# Altium footprint library CALTEST_CT3151-2.PcbLib: 1 footprints
Each footprint in its own frame and in the unit in brackets; x right, y up, seen from the top. Pads: shape width x height; smd on the part's side, far side on the other; paste and mask are expansions set on the pad; w line width, h text height; cw(c..) or ccw(c..) is an arc to the next point about the centre after c.
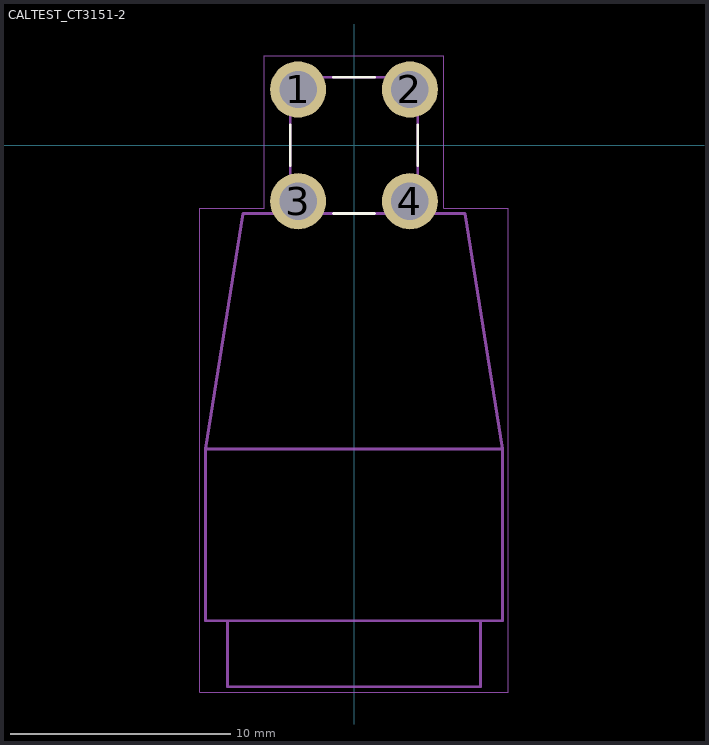
[diagram p0: the footprint, top view; thin cyan lines are the x and y axes]

## CALTEST_CT3151-2 [mm]
height 19.25
pads (4):
  round 2.55 hole 1.7: 1(-2.54,2.54) 2(2.54,2.54) 3(-2.54,-2.54) 4(2.54,-2.54)
Top Overlay:
  lines w0.127: -2.9,-0.93 -2.9,0.93 ; -0.93,-3.1 0.93,-3.1 ; -0.93,3.1 0.93,3.1 ; 2.9,-0.93 2.9,0.93
Mechanical 13:
  lines w0.127: -6.75,-13.8 6.75,-13.8 ; -6.75,-13.8 -6.75,-21.6 -5.75,-21.6 ; -6.75,-13.8 -5.05,-3.1 5.05,-3.1 6.75,-13.8 ; -5.75,-21.6 5.75,-21.6 ; -5.75,-21.6 -5.75,-24.6 5.75,-24.6 5.75,-21.6 ; 5.75,-21.6 6.75,-21.6 6.75,-13.8 ; -2.9,-3.1 2.9,-3.1 2.9,3.1 -2.9,3.1 -2.9,-3.1
Mechanical 15:
  lines w0.05: -7,-24.85 7,-24.85 7,-2.85 4.07,-2.85 4.07,4.07 -4.07,4.07 -4.07,-2.85 -7,-2.85 -7,-24.85
3D body "step_temp.STEP": height 6.75, standoff -15.65, extent -13.85,-6.75 13.85,6.75